# Altium footprint library SOT-23.PcbLib: 1 footprints
Each footprint in its own frame and in the unit in brackets; x right, y up, seen from the top. Pads: shape width x height; smd on the part's side, far side on the other; paste and mask are expansions set on the pad; w line width, h text height; cw(c..) or ccw(c..) is an arc to the next point about the centre after c.
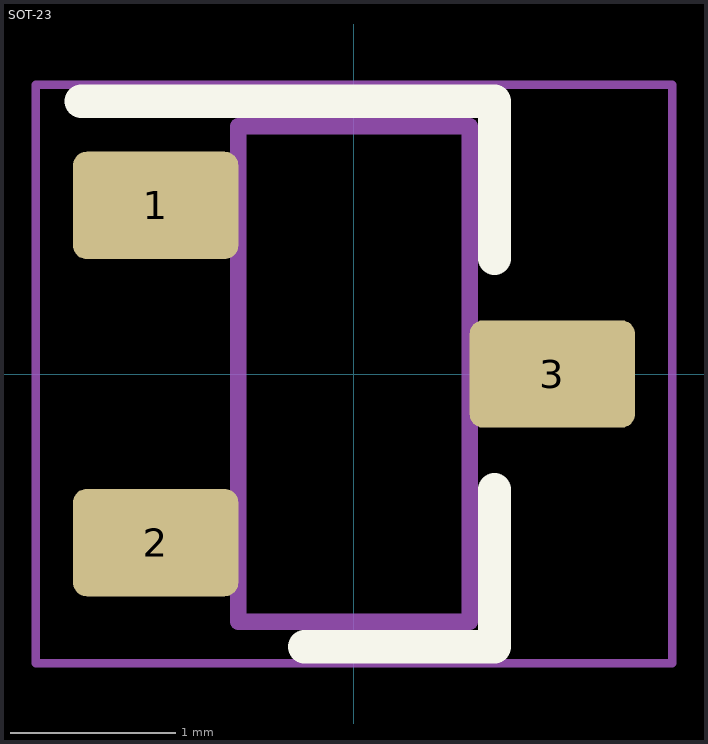
[diagram p0: the footprint, top view; thin cyan lines are the x and y axes]

## SOT-23 [mm] "SOT23, 3-Leads, IPC Medium Density, TO-236"
height 1.1
pads (3):
  rrect25% 1x0.65 smd: 1(-1.2,1.02) 2(-1.2,-1.02) 3(1.2,0)
Top Overlay:
  lines w0.2: -1.65,1.65 0.85,1.65 0.85,0.7 ; -0.3,-1.65 0.85,-1.65 0.85,-0.7
Mechanical 13:
  lines w0.1: -0.7,-1.5 0.7,-1.5 0.7,1.5 -0.7,1.5 -0.7,-1.5
Mechanical 15:
  lines w0.05: -1.925,-1.75 1.925,-1.75 1.925,1.75 -1.925,1.75 -1.925,-1.75
3D body "p200_SOT-23.stp": height 1.3, standoff 0, extent -1.3,-1.52 1.3,1.52